# Altium schematic symbol library Sensors.SchLib: 10 symbols
Pins are listed as number, name and electrical type; pins without a type are passive.

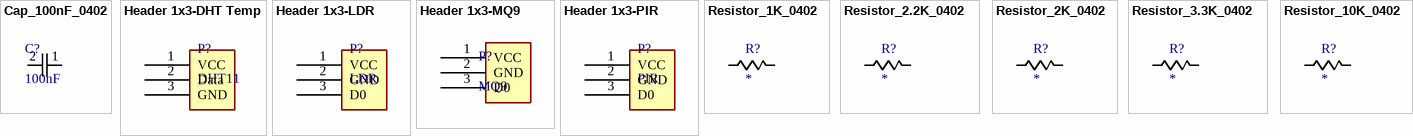
[diagram p0: symbols Cap_100nF_0402 to Resistor_10K_0402]

## Cap_100nF_0402
designator C?, comment 100nF
CAP CER 100nF 16V X7R 0402; Manufacturer: Samsung Electro-Mechanics; Manufacturer Part #: CL05B104KO5NNNC; Supplier: LCSC; Supplier Part#: C1525; ComponentLink1Description: Data Sheet; ComponentLink1URL: https://www.lcsc.com/datasheet/C1525.pdf?spm=wm.sxq.inf.ggs___wm.fly.bg.1.stp&lcsc_vid=T1MKV1cAE1gLBAVfTgIKUgJfTlkPBQBVQlMMBAJURwAxVlNeT1dfVlxVQ1ReXzsOAxUeFF5JWBYZEEoKFBINSQcJGk4%3D
footprint CAPC1005X55N
pins: 1, 2

## Header 1x3-DHT Temp
designator P?, comment DHT11
DHT11 Temperature Humidity Sensor Board measures temperature (0–50°C) and humidity (20–90%) with digital output, ideal for weather monitoring, IoT, automation.; Supplier: Makers Electronics; Supplier Part#: 300000009298; ComponentLink1Description: Link; ComponentLink1URL: https://makerselectronics.com/product/dht11-board/
footprint HEADER 1x3 MALE (2.54mm)
pins: 1 VCC, 2 Data, 3 GND

## Header 1x3-LDR
designator P?, comment LDR
The LDR Light Sensor Module detects light intensity, with resistance decreasing as light increases. Ideal for automatic lighting and brightness sensing.; Supplier: Makers Electronics; Supplier Part#: 300000009413; ComponentLink1Description: Link; ComponentLink1URL: https://makerselectronics.com/product/ldr-light-sensor-module/
footprint HEADER 1x3 MALE (2.54mm)
pins: 1 VCC, 2 GND, 3 D0

## Header 1x3-MQ9
designator P?, comment MQ9
MQ-9 is a compact and versatile gas sensor module for detecting carbon monoxide and combustible gases.; Supplier: Makers Electronics; Supplier Part#: 300000009267; ComponentLink1Description: Link; ComponentLink1URL: https://makerselectronics.com/product/mq-9-carbon-monoxide-gas-sensor/
footprint HEADER 1x3 MALE (2.54mm)
pins: 1 VCC, 2 GND, 3 D0

## Header 1x3-PIR
designator P?, comment PIR
AM312  is a compact PIR motion sensor (HW-740) that detects motion up to 5 m with ultra-low power consumption for battery-powered projects.automatic lighting and brightness sensing.; Supplier: Makers Electronics; Supplier Part#: 3496300110674; ComponentLink1Description: Link; ComponentLink1URL: https://makerselectronics.com/product/am312-mini-pir-motion-sensor-module/
footprint HEADER 1x3 MALE (2.54mm)
pins: 1 VCC, 2 GND, 3 D0

## Resistor_1K_0402
designator R?
1kOhms Â±1% 0.063W, 1/16W Chip Resistor 0402 (1005 Metric) Moisture Resistant Thick Film; Manufacturer: FOJAN; Manufacturer Part #: RC0402FR-071KL; Supplier: LCSC; Supplier Part #: C106235; ComponentLink1Description: Data Sheet; ComponentLink1URL: https://www.lcsc.com/datasheet/C106235.pdf?spm=wm.sxq.inf.ggs___wm.fly.bg.2.stp&lcsc_vid=T1MKV1cAE1gLBAVfTgIKUgJfTlkPBQBVQlMMBAJURwAxVlNeT1dcVlJVRFlZVzsOAxUeFF5JWBYZEEoKFBINSQcJGk4NBhADEA4cHktXRlhXSQwSGg0%3D
footprint RESC1005X40N
pins: 1, 2

## Resistor_2.2K_0402
designator R?
2.2kOhms Â±1% 0.063W, 1/16W Chip Resistor 0402 (1005 Metric) Moisture Resistant Thick Film; Manufacturer: FOJAN; Manufacturer Part #: RC0402FR-071KL; Supplier: LCSC; Supplier Part #: C106235; ComponentLink1Description: Data Sheet; ComponentLink1URL: https://www.lcsc.com/datasheet/C106235.pdf?spm=wm.sxq.inf.ggs___wm.fly.bg.2.stp&lcsc_vid=T1MKV1cAE1gLBAVfTgIKUgJfTlkPBQBVQlMMBAJURwAxVlNeT1dcVlJVRFlZVzsOAxUeFF5JWBYZEEoKFBINSQcJGk4NBhADEA4cHktXRlhXSQwSGg0%3D
footprint RESC1005X40N
pins: 1, 2

## Resistor_2K_0402
designator R?
2kOhms Â±1% 0.063W, 1/16W Chip Resistor 0402 (1005 Metric) Moisture Resistant Thick Film; Manufacturer: FOJAN; Manufacturer Part #: RC0402FR-071KL; Supplier: LCSC; Supplier Part #: C106235; ComponentLink1Description: Data Sheet; ComponentLink1URL: https://www.lcsc.com/datasheet/C106235.pdf?spm=wm.sxq.inf.ggs___wm.fly.bg.2.stp&lcsc_vid=T1MKV1cAE1gLBAVfTgIKUgJfTlkPBQBVQlMMBAJURwAxVlNeT1dcVlJVRFlZVzsOAxUeFF5JWBYZEEoKFBINSQcJGk4NBhADEA4cHktXRlhXSQwSGg0%3D
footprint RESC1005X40N
pins: 1, 2

## Resistor_3.3K_0402
designator R?
RES 3.3kΩ ±1% 62.5mW 0402; Manufacturer: YAGEO; Manufacturer Part #: RC0402FR-074K7L; Supplier: LCSC; Supplier Part #: C105871; ComponentLink1Description: Data Sheet; ComponentLink1URL: https://www.lcsc.com/datasheet/C105871.pdf?spm=wm.sxq.inf.ggs___wm.fly.bg.0.stp&lcsc_vid=RFcPU1ZSEVdeBFReRgUKAgZXQAMKBQJURFUIAwVSQVgxVlNeT1dXUFZUTldcVjsOAxUeFF5JWBYZEEoKFBINSQcJGk4NBhADEA4cHktXR1BYSQwSGg0%3D
footprint RESC1005X40N
pins: 1, 2

## Resistor_10K_0402
designator R?
RES 10kΩ ±1% 62.5mW 0402; Manufacturer: YAGEO; Manufacturer Part #: RC0402FR-0710KL; Supplier: LCSC; Supplier Part #: C60490; ComponentLink1Description: Data Sheet; ComponentLink1URL: https://www.lcsc.com/datasheet/C60490.pdf?spm=wm.sxq.inf.ggs___wm.fly.bg.1.stp&lcsc_vid=T1MKV1cAE1gLBAVfTgIKUgJfTlkPBQBVQlMMBAJURwAxVlNeT1dcVVBSRVlfUDsOAxUeFF5JWBYZEEoKFBINSQcJGk4NBhADEA4cHktXRlhXSQwSGg0%3D
footprint RESC1005X40N
pins: 1, 2